# Altium footprint library RF_Trans_50Ohm_Minicircuits_TC1-1-13M_AT224.PcbLib: 1 footprints
Each footprint in its own frame and in the unit in brackets; x right, y up, seen from the top. Pads: shape width x height; smd on the part's side, far side on the other; paste and mask are expansions set on the pad; w line width, h text height; cw(c..) or ccw(c..) is an arc to the next point about the centre after c.
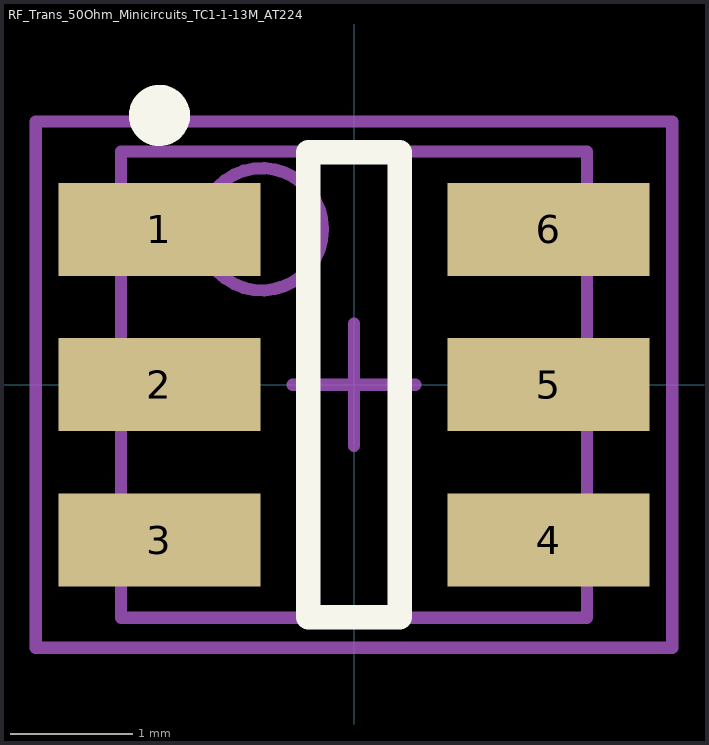
[diagram p0: the footprint, top view; thin cyan lines are the x and y axes]

## RF_Trans_50Ohm_Minicircuits_TC1-1-13M_AT224 [mm]
height 3.81
pads (6):
  rect 1.65x0.76 smd: 1(-1.59,1.27) 2(-1.59,0) 3(-1.59,-1.27) 4(1.59,-1.27) 5(1.59,0) 6(1.59,1.27)
Top Overlay:
  circle w0.25: c-1.59,2.2 r0.125
  lines w0.2: -0.375,-1.9 0.375,-1.9 0.375,1.9 -0.375,1.9 -0.375,-1.9
Mechanical 13:
  circle w0.1: c-0.754,1.27 r0.5
  lines w0.1: -1.905,-1.905 1.905,-1.905 1.905,1.905 -1.905,1.905 -1.905,-1.905
Mechanical 15:
  lines w0.1: -0.5,0 0.5,0 ; 0,-0.5 0,0.5 ; -2.6,-2.15 2.6,-2.15 2.6,2.15 -2.6,2.15 -2.6,-2.15
3D body: height 3.81, standoff 0.2, extent -1.905,-1.905 1.905,1.905